# Altium footprint library 4684.PcbLib: 1 footprints
Each footprint in its own frame and in the unit in brackets; x right, y up, seen from the top. Pads: shape width x height; smd on the part's side, far side on the other; paste and mask are expansions set on the pad; w line width, h text height; cw(c..) or ccw(c..) is an arc to the next point about the centre after c.
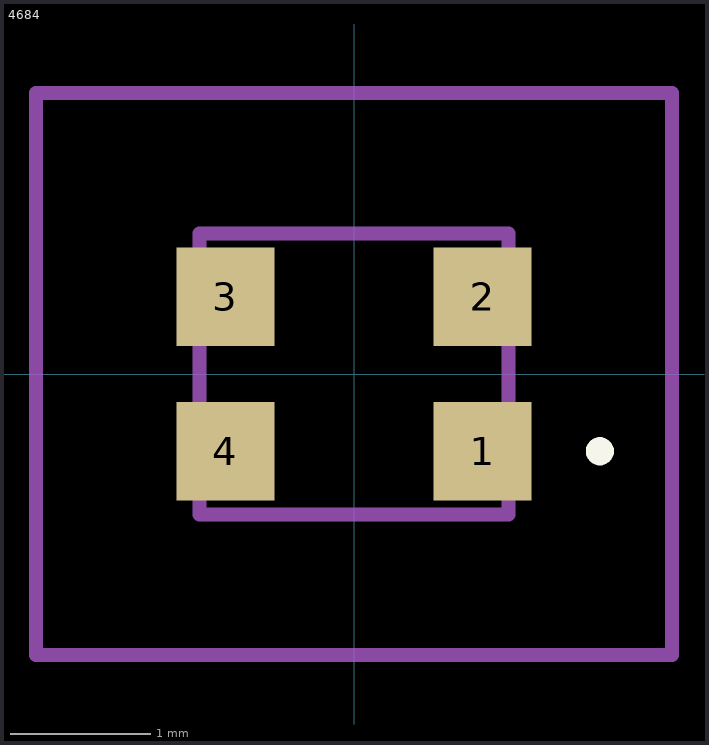
[diagram p0: the footprint, top view; thin cyan lines are the x and y axes]

## 4684 [mm]
pads (4):
  rect 0.7x0.7 smd: 1(0.915,-0.55) 2(0.915,0.55) 3(-0.915,0.55) 4(-0.915,-0.55)
Top Overlay:
  lines w0.1: 1.7,-0.55 cw(c1.75,-0.55) 1.8,-0.55 ; 1.7,-0.55 1.7,-0.55 ; 1.7,-0.55 ccw(c1.75,-0.55) 1.8,-0.55 ; 1.8,-0.55 1.8,-0.55
Mechanical 15:
  lines w0.1: -1.1,-1 1.1,-1 1.1,1 -1.1,1 -1.1,-1
Mechanical 20:
  lines w0.1: -2.265,-2 2.265,-2 2.265,2 -2.265,2 -2.265,-2